# Altium integrated library Silicon Labs Energy Micro EFM32.IntLib: 240 symbols (part 1 of 34)
Pins are listed as number, name and electrical type; pins without a type are passive.

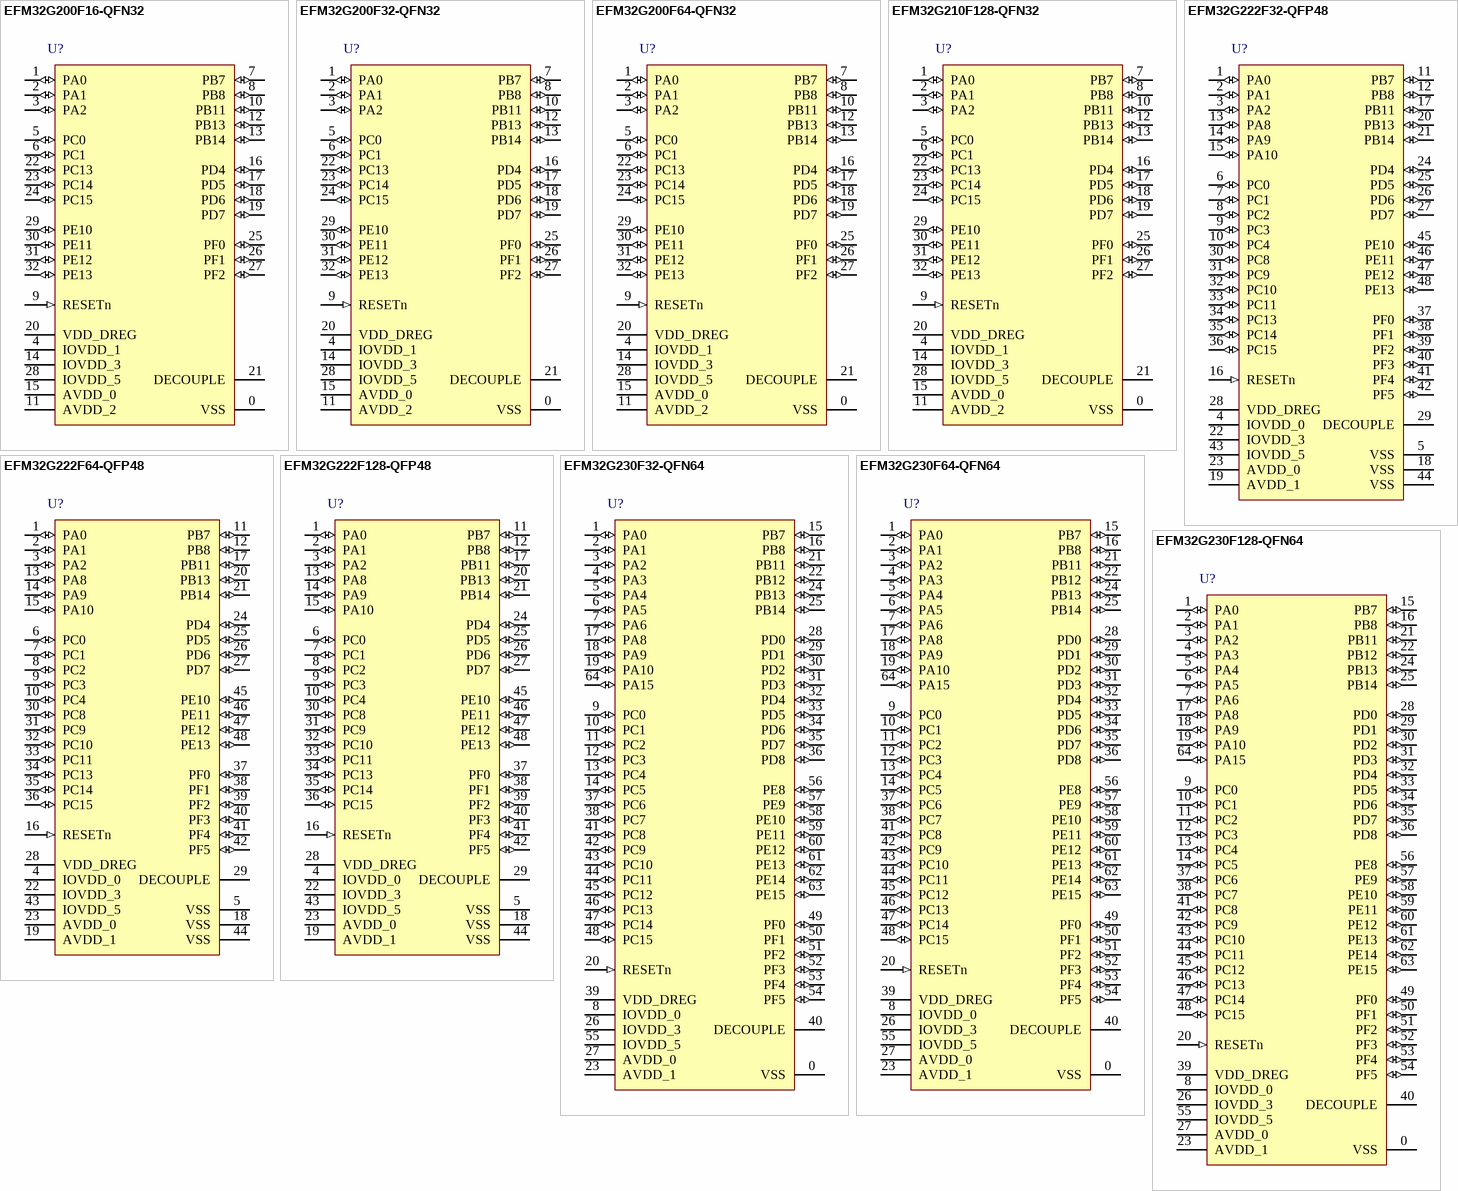
[diagram p0: symbols EFM32G200F16-QFN32 to EFM32G230F128-QFN64]

## EFM32G200F16-QFN32
designator U?
EFM32 Gecko, M3 ARM Cortex CPU, 16 KB Flash, 8 KB RAM, 1.85 - 3.8 V Supply, 32 MHz Max Speed, -40 to 85 degC, 32-Pin QFN, RoHS Compliant; Generic Part Number: EFM32G200; PartNumber: EFM32G200F16-QFN32; ADC: Y; Flash (KB): 16; GPIO: 24; Max Speed (MHz): 32; RAM (KB): 8; DatasheetVersion: Rev 1.50; PackageVersion: Rev. 98SPP32088A_XO1_10MAR2011; PackageReference: QFN32; PackageDescription: 32-Pin Quad Flat No Lead Package, Body 6 x 6 mm, Pitch 0.65 mm; Supplier 1: Digi-Key; Supplier Part Number 1: EFM32G200F16-ND; Supplier 2: Mouser; Supplier Part Number 2: 904-EFM32G200F16; ARM Cortex CPU: M3; Subcategory: EFM32 Gecko; Supply Voltage (V): 1.85 - 3.8; Mounting Technology: Surface Mount; ComponentLink1Description: Manufacturer URL; ComponentLink1URL: http://www.energymicro.com/; ComponentLink2Description: Datasheet; ComponentLink2URL: http://cdn.energymicro.com/dl/devices/pdf/d0003_efm32g200_datasheet.pdf; ComponentLink3Description: Package Specification; ComponentLink3URL: http://cdn.energymicro.com/dl/devices/pdf/d0004_efm32g210_datasheet.pdf
footprint ENMR-QFN32_N (QFN, 32-Leads, Body 6x6mm, Pitch 0.65mm, Thermal Pad 4.4x4.4mm, IPC Medium Density)
footprint ENMR-QFN32_L (QFN, 32-Leads, Body 6x6mm, Pitch 0.65mm, Thermal Pad 4.4x4.4mm, IPC High Density)
footprint ENMR-QFN32_M (QFN, 32-Leads, Body 6x6mm, Pitch 0.65mm, Thermal Pad 4.4x4.4mm, IPC Low Density)
pins: 0 VSS (power) "Ground", 1 PA0 (io) "TIM0_CC0#0/1, I2C0_SDA#0", 2 PA1 (io) "TIM0_CC1#0/1, I2C0_SCL#0, CMU_CLK1#0", 3 PA2 (io) "TIM0_CC2#0/1, CMU_CLK0#0", 4 IOVDD_1 (power) "Digital IO power supply 1.", 5 PC0 (io) "ACMP0_CH0, PCNT0_S0IN#2, US1_TX#0", 6 PC1 (io) "ACMP0_CH1, PCNT0_S1IN#2, US1_RX#0", 7 PB7 (io) "LFXTAL_P, US1_CLK#0", 8 PB8 (io) "LFXTAL_N, US1_CS#0", 9 RESETn (in) "Reset input. Active low, with internal pull-up.", 10 PB11 (io) "DAC0_OUT0, LETIM0_OUT0#1", 11 AVDD_2 (power) "Analog power supply 2 .", 12 PB13 (io) "HFXTAL_P, LEU0_TX#1", 13 PB14 (io) "HFXTAL_N, LEU0_RX#1", 14 IOVDD_3 (power) "Digital IO power supply 3.", 15 AVDD_0 (power) "Analog power supply 0.", 16 PD4 (io) "ADC0_CH4, LEU0_TX#0", 17 PD5 (io) "ADC0_CH5, LEU0_RX#0", 18 PD6 (io) "ADC0_CH6, LETIM0_OUT0#0, I2C0_SDA#1", 19 PD7 (io) "ADC0_CH7, LETIM0_OUT1#0, I2C0_SCL#1", 20 VDD_DREG (power) "Power supply for on-chip voltage regulator.", 21 DECOUPLE "Decouple output for on-chip voltage regulator. An external capacitance of size CDECOUPLE is required at this pin.", 22 PC13 (io) "ACMP1_CH5, TIM0_CDTI0#1/3, TIM1_CC0#0, PCNT0_S0IN#0", 23 PC14 (io) "ACMP1_CH6, TIM0_CDTI1#1/3, TIM1_CC1#0, PCNT0_S1IN#0", 24 PC15 (io) "ACMP1_CH7, TIM0_CDTI2#1/3, TIM1_CC2#0, DBG_SWO#1", 25 PF0 (io) "LETIM0_OUT0#2, DBG_SWCLK#0/1", 26 PF1 (io) "LETIM0_OUT1#2, DBG_SWDIO#0/1", 27 PF2 (io) "ACMP1_O#0, DBG_SWO#0", 28 IOVDD_5 (power) "Digital IO power supply 5.", 29 PE10 (io) "TIM1_CC0#1, US0_TX#0", 30 PE11 (io) "TIM1_CC1#1, US0_RX#0", 31 PE12 (io) "TIM1_CC2#1, US0_CLK#0", 32 PE13 (io) "US0_CS#0, ACMP0_O#0"

## EFM32G200F32-QFN32
designator U?
EFM32 Gecko, M3 ARM Cortex CPU, 32 KB Flash, 8 KB RAM, 1.85 - 3.8 V Supply, 32 MHz Max Speed, -40 to 85 degC, 32-Pin QFN, RoHS Compliant; Generic Part Number: EFM32G200; PartNumber: EFM32G200F32-QFN32; ADC: Y; Flash (KB): 32; GPIO: 24; RAM (KB): 8; DatasheetVersion: Rev 1.50; PackageVersion: Rev. 98SPP32088A_XO1_10MAR2011; PackageReference: QFN32; PackageDescription: 32-Pin Quad Flat No Lead Package, Body 6 x 6 mm, Pitch 0.65 mm; Supplier 1: Digi-Key; Supplier Part Number 1: EFM32G200F32-ND; Supplier 2: Mouser; Supplier Part Number 2: 904-EFM32G200F32; ARM Cortex CPU: M3; Max Speed (MHz): 32; Subcategory: EFM32 Gecko; Supply Voltage (V): 1.85 - 3.8; Mounting Technology: Surface Mount; ComponentLink1Description: Manufacturer URL; ComponentLink1URL: http://www.energymicro.com/; ComponentLink2Description: Datasheet; ComponentLink2URL: http://cdn.energymicro.com/dl/devices/pdf/d0003_efm32g200_datasheet.pdf; ComponentLink3Description: Package Specification; ComponentLink3URL: http://cdn.energymicro.com/dl/devices/pdf/d0004_efm32g210_datasheet.pdf
footprint ENMR-QFN32_N (QFN, 32-Leads, Body 6x6mm, Pitch 0.65mm, Thermal Pad 4.4x4.4mm, IPC Medium Density)
footprint ENMR-QFN32_L (QFN, 32-Leads, Body 6x6mm, Pitch 0.65mm, Thermal Pad 4.4x4.4mm, IPC High Density)
footprint ENMR-QFN32_M (QFN, 32-Leads, Body 6x6mm, Pitch 0.65mm, Thermal Pad 4.4x4.4mm, IPC Low Density)
pins: 0 VSS (power) "Ground", 1 PA0 (io) "TIM0_CC0#0/1, I2C0_SDA#0", 2 PA1 (io) "TIM0_CC1#0/1, I2C0_SCL#0, CMU_CLK1#0", 3 PA2 (io) "TIM0_CC2#0/1, CMU_CLK0#0", 4 IOVDD_1 (power) "Digital IO power supply 1.", 5 PC0 (io) "ACMP0_CH0, PCNT0_S0IN#2, US1_TX#0", 6 PC1 (io) "ACMP0_CH1, PCNT0_S1IN#2, US1_RX#0", 7 PB7 (io) "LFXTAL_P, US1_CLK#0", 8 PB8 (io) "LFXTAL_N, US1_CS#0", 9 RESETn (in) "Reset input. Active low, with internal pull-up.", 10 PB11 (io) "DAC0_OUT0, LETIM0_OUT0#1", 11 AVDD_2 (power) "Analog power supply 2 .", 12 PB13 (io) "HFXTAL_P, LEU0_TX#1", 13 PB14 (io) "HFXTAL_N, LEU0_RX#1", 14 IOVDD_3 (power) "Digital IO power supply 3.", 15 AVDD_0 (power) "Analog power supply 0.", 16 PD4 (io) "ADC0_CH4, LEU0_TX#0", 17 PD5 (io) "ADC0_CH5, LEU0_RX#0", 18 PD6 (io) "ADC0_CH6, LETIM0_OUT0#0, I2C0_SDA#1", 19 PD7 (io) "ADC0_CH7, LETIM0_OUT1#0, I2C0_SCL#1", 20 VDD_DREG (power) "Power supply for on-chip voltage regulator.", 21 DECOUPLE "Decouple output for on-chip voltage regulator. An external capacitance of size CDECOUPLE is required at this pin.", 22 PC13 (io) "ACMP1_CH5, TIM0_CDTI0#1/3, TIM1_CC0#0, PCNT0_S0IN#0", 23 PC14 (io) "ACMP1_CH6, TIM0_CDTI1#1/3, TIM1_CC1#0, PCNT0_S1IN#0", 24 PC15 (io) "ACMP1_CH7, TIM0_CDTI2#1/3, TIM1_CC2#0, DBG_SWO#1", 25 PF0 (io) "LETIM0_OUT0#2, DBG_SWCLK#0/1", 26 PF1 (io) "LETIM0_OUT1#2, DBG_SWDIO#0/1", 27 PF2 (io) "ACMP1_O#0, DBG_SWO#0", 28 IOVDD_5 (power) "Digital IO power supply 5.", 29 PE10 (io) "TIM1_CC0#1, US0_TX#0", 30 PE11 (io) "TIM1_CC1#1, US0_RX#0", 31 PE12 (io) "TIM1_CC2#1, US0_CLK#0", 32 PE13 (io) "US0_CS#0, ACMP0_O#0"

## EFM32G200F64-QFN32
designator U?
EFM32 Gecko, M3 ARM Cortex CPU, 64 KB Flash, 16 KB RAM, 1.85 - 3.8 V Supply, 32 MHz Max Speed, -40 to 85 degC, 32-Pin QFN, RoHS Compliant; Generic Part Number: EFM32G200; PartNumber: EFM32G200F64-QFN32; ADC: Y; Flash (KB): 64; GPIO: 24; Max Speed (MHz): 32; RAM (KB): 16; DatasheetVersion: Rev 1.50; PackageVersion: Rev. 98SPP32088A_XO1_10MAR2011; PackageReference: QFN32; PackageDescription: 32-Pin Quad Flat No Lead Package, Body 6 x 6 mm, Pitch 0.65 mm; Supplier 1: Digi-Key; Supplier Part Number 1: EFM32G200F64-ND; Supplier 2: Mouser; Supplier Part Number 2: 904-EFM32G200F64; ARM Cortex CPU: M3; Subcategory: EFM32 Gecko; Supply Voltage (V): 1.85 - 3.8; Mounting Technology: Surface Mount; ComponentLink1Description: Manufacturer URL; ComponentLink1URL: http://www.energymicro.com/; ComponentLink2Description: Datasheet; ComponentLink2URL: http://cdn.energymicro.com/dl/devices/pdf/d0003_efm32g200_datasheet.pdf; ComponentLink3Description: Package Specification; ComponentLink3URL: http://cdn.energymicro.com/dl/devices/pdf/d0004_efm32g210_datasheet.pdf
footprint ENMR-QFN32_N (QFN, 32-Leads, Body 6x6mm, Pitch 0.65mm, Thermal Pad 4.4x4.4mm, IPC Medium Density)
footprint ENMR-QFN32_L (QFN, 32-Leads, Body 6x6mm, Pitch 0.65mm, Thermal Pad 4.4x4.4mm, IPC High Density)
footprint ENMR-QFN32_M (QFN, 32-Leads, Body 6x6mm, Pitch 0.65mm, Thermal Pad 4.4x4.4mm, IPC Low Density)
pins: 0 VSS (power) "Ground", 1 PA0 (io) "TIM0_CC0#0/1, I2C0_SDA#0", 2 PA1 (io) "TIM0_CC1#0/1, I2C0_SCL#0, CMU_CLK1#0", 3 PA2 (io) "TIM0_CC2#0/1, CMU_CLK0#0", 4 IOVDD_1 (power) "Digital IO power supply 1.", 5 PC0 (io) "ACMP0_CH0, PCNT0_S0IN#2, US1_TX#0", 6 PC1 (io) "ACMP0_CH1, PCNT0_S1IN#2, US1_RX#0", 7 PB7 (io) "LFXTAL_P, US1_CLK#0", 8 PB8 (io) "LFXTAL_N, US1_CS#0", 9 RESETn (in) "Reset input. Active low, with internal pull-up.", 10 PB11 (io) "DAC0_OUT0, LETIM0_OUT0#1", 11 AVDD_2 (power) "Analog power supply 2 .", 12 PB13 (io) "HFXTAL_P, LEU0_TX#1", 13 PB14 (io) "HFXTAL_N, LEU0_RX#1", 14 IOVDD_3 (power) "Digital IO power supply 3.", 15 AVDD_0 (power) "Analog power supply 0.", 16 PD4 (io) "ADC0_CH4, LEU0_TX#0", 17 PD5 (io) "ADC0_CH5, LEU0_RX#0", 18 PD6 (io) "ADC0_CH6, LETIM0_OUT0#0, I2C0_SDA#1", 19 PD7 (io) "ADC0_CH7, LETIM0_OUT1#0, I2C0_SCL#1", 20 VDD_DREG (power) "Power supply for on-chip voltage regulator.", 21 DECOUPLE "Decouple output for on-chip voltage regulator. An external capacitance of size CDECOUPLE is required at this pin.", 22 PC13 (io) "ACMP1_CH5, TIM0_CDTI0#1/3, TIM1_CC0#0, PCNT0_S0IN#0", 23 PC14 (io) "ACMP1_CH6, TIM0_CDTI1#1/3, TIM1_CC1#0, PCNT0_S1IN#0", 24 PC15 (io) "ACMP1_CH7, TIM0_CDTI2#1/3, TIM1_CC2#0, DBG_SWO#1", 25 PF0 (io) "LETIM0_OUT0#2, DBG_SWCLK#0/1", 26 PF1 (io) "LETIM0_OUT1#2, DBG_SWDIO#0/1", 27 PF2 (io) "ACMP1_O#0, DBG_SWO#0", 28 IOVDD_5 (power) "Digital IO power supply 5.", 29 PE10 (io) "TIM1_CC0#1, US0_TX#0", 30 PE11 (io) "TIM1_CC1#1, US0_RX#0", 31 PE12 (io) "TIM1_CC2#1, US0_CLK#0", 32 PE13 (io) "US0_CS#0, ACMP0_O#0"

## EFM32G210F128-QFN32
designator U?
EFM32 Gecko, M3 ARM Cortex CPU, 128 KB Flash, 16 KB RAM, 1.85 - 3.8 V Supply, 32 MHz Max Speed, -40 to 85 degC, 32-Pin QFN, RoHS Compliant; Generic Part Number: EFM32G210; PartNumber: EFM32G210F128-QFN32; ADC: Y; Flash (KB): 128; GPIO: 24; Max Speed (MHz): 32; RAM (KB): 16; DatasheetVersion: Rev 1.50; PackageVersion: Rev. 98SPP32088A_XO1_10MAR2011; PackageReference: QFN32; PackageDescription: 32-Pin Quad Flat No Lead Package, Body 6 x 6 mm, Pitch 0.65 mm; Supplier 1: Digi-Key; Supplier Part Number 1: 914-1011-2-ND; Supplier 2: Digi-Key; Supplier Part Number 2: 914-1011-1-ND; Supplier 3: Digi-Key; Supplier Part Number 3: 914-1011-6-ND; Supplier 4: Mouser; Supplier Part Number 4: 904-EFM32G210F128; AES: Y; ARM Cortex CPU: M3; Subcategory: EFM32 Gecko; Supply Voltage (V): 1.85 - 3.8; Mounting Technology: Surface Mount; ComponentLink1Description: Manufacturer URL; ComponentLink1URL: http://www.energymicro.com/; ComponentLink2Description: Datasheet; ComponentLink2URL: http://cdn.energymicro.com/dl/devices/pdf/d0004_efm32g210_datasheet.pdf; ComponentLink3Description: Package Specification; ComponentLink3URL: http://cdn.energymicro.com/dl/devices/pdf/d0004_efm32g210_datasheet.pdf
footprint ENMR-QFN32_N (QFN, 32-Leads, Body 6x6mm, Pitch 0.65mm, Thermal Pad 4.4x4.4mm, IPC Medium Density)
footprint ENMR-QFN32_L (QFN, 32-Leads, Body 6x6mm, Pitch 0.65mm, Thermal Pad 4.4x4.4mm, IPC High Density)
footprint ENMR-QFN32_M (QFN, 32-Leads, Body 6x6mm, Pitch 0.65mm, Thermal Pad 4.4x4.4mm, IPC Low Density)
pins: 0 VSS (power) "Ground", 1 PA0 (io) "TIM0_CC0#0/1, I2C0_SDA#0", 2 PA1 (io) "TIM0_CC1#0/1, I2C0_SCL#0, CMU_CLK1#0", 3 PA2 (io) "TIM0_CC2#0/1, CMU_CLK0#0", 4 IOVDD_1 (power) "Digital IO power supply 1.", 5 PC0 (io) "ACMP0_CH0, PCNT0_S0IN#2, US1_TX#0", 6 PC1 (io) "ACMP0_CH1, PCNT0_S1IN#2, US1_RX#0", 7 PB7 (io) "LFXTAL_P, US1_CLK#0", 8 PB8 (io) "LFXTAL_N, US1_CS#0", 9 RESETn (in) "Reset input. Active low, with internal pull-up.", 10 PB11 (io) "DAC0_OUT0, LETIM0_OUT0#1", 11 AVDD_2 (power) "Analog power supply 2 .", 12 PB13 (io) "HFXTAL_P, LEU0_TX#1", 13 PB14 (io) "HFXTAL_N, LEU0_RX#1", 14 IOVDD_3 (power) "Digital IO power supply 3.", 15 AVDD_0 (power) "Analog power supply 0.", 16 PD4 (io) "ADC0_CH4, LEU0_TX#0", 17 PD5 (io) "ADC0_CH5, LEU0_RX#0", 18 PD6 (io) "ADC0_CH6, LETIM0_OUT0#0, I2C0_SDA#1", 19 PD7 (io) "ADC0_CH7, LETIM0_OUT1#0, I2C0_SCL#1", 20 VDD_DREG (power) "Power supply for on-chip voltage regulator.", 21 DECOUPLE "Decouple output for on-chip voltage regulator. An external capacitance of size CDECOUPLE is required at this pin.", 22 PC13 (io) "ACMP1_CH5, TIM0_CDTI0#1/3, TIM1_CC0#0, PCNT0_S0IN#0", 23 PC14 (io) "ACMP1_CH6, TIM0_CDTI1#1/3, TIM1_CC1#0, PCNT0_S1IN#0", 24 PC15 (io) "ACMP1_CH7, TIM0_CDTI2#1/3, TIM1_CC2#0, DBG_SWO#1", 25 PF0 (io) "LETIM0_OUT0#2, DBG_SWCLK#0/1", 26 PF1 (io) "LETIM0_OUT1#2, DBG_SWDIO#0/1", 27 PF2 (io) "ACMP1_O#0, DBG_SWO#0", 28 IOVDD_5 (power) "Digital IO power supply 5.", 29 PE10 (io) "TIM1_CC0#1, US0_TX#0", 30 PE11 (io) "TIM1_CC1#1, US0_RX#0", 31 PE12 (io) "TIM1_CC2#1, US0_CLK#0", 32 PE13 (io) "US0_CS#0, ACMP0_O#0"

## EFM32G222F32-QFP48
designator U?
EFM32 Gecko, M3 ARM Cortex CPU, 32 KB Flash, 8 KB RAM, 1.85 - 3.8 V Supply, 32 MHz Max Speed, -40 to 85 degC, 48-Pin TQFP, RoHS Compliant; Generic Part Number: EFM32G222; PartNumber: EFM32G222F32-QFP48; ADC: Y; Flash (KB): 32; GPIO: 37; RAM (KB): 8; DatasheetVersion: Rev 1.50; PackageVersion: Rev. 98SPP48097A_XO_30Mar11; PackageReference: TQFP48; PackageDescription: 48-Pin Quad Flat Package, Body 7 x 7 mm, Pitch 0.5 mm; Supplier 1: Digi-Key; Supplier Part Number 1: EFM32G222F32-ND; Supplier 2: Mouser; Supplier Part Number 2: 904-EFM32G222F32; AES: Y; ARM Cortex CPU: M3; Max Speed (MHz): 32; Subcategory: EFM32 Gecko; Supply Voltage (V): 1.85 - 3.8; Mounting Technology: Surface Mount; ComponentLink1Description: Manufacturer URL; ComponentLink1URL: http://www.energymicro.com/; ComponentLink2Description: Datasheet; ComponentLink2URL: http://cdn.energymicro.com/dl/devices/pdf/d0033_efm32g222_datasheet.pdf; ComponentLink3Description: Package Specification; ComponentLink3URL: http://cdn.energymicro.com/dl/devices/pdf/d0033_efm32g222_datasheet.pdf
footprint ENMR-TQFP48_N (QFP, 48-Leads, Body 7x7mm, Pitch 0.5mm, IPC Medium Density)
footprint ENMR-TQFP48_L (QFP, 48-Leads, Body 7x7mm, Pitch 0.5mm, IPC High Density)
footprint ENMR-TQFP48_M (QFP, 48-Leads, Body 7x7mm, Pitch 0.5mm, IPC Low Density)
pins: 1 PA0 (io) "TIM0_CC0#0/1, I2C0_SDA#0", 2 PA1 (io) "TIM0_CC1#0/1, I2C0_SCL#0, CMU_CLK1#0", 3 PA2 (io) "TIM0_CC2#0/1, CMU_CLK0#0", 4 IOVDD_0 (power) "Digital IO power supply 0.", 5 VSS (power) "Ground", 6 PC0 (io) "ACMP0_CH0, PCNT0_S0IN#2, US1_TX#0", 7 PC1 (io) "ACMP0_CH1, PCNT0_S1IN#2, US1_RX#0", 8 PC2 (io) "ACMP0_CH2", 9 PC3 (io) "ACMP0_CH3", 10 PC4 (io) "ACMP0_CH4, LETIM0_OUT0#3, PCNT1_S0IN#0", 11 PB7 (io) "LFXTAL_P, US1_CLK#0", 12 PB8 (io) "LFXTAL_N, US1_CS#0", 13 PA8 (io) "TIM2_CC0#0", 14 PA9 (io) "TIM2_CC1#0", 15 PA10 (io) "TIM2_CC2#0", 16 RESETn (in) "Reset input.Active low, with internal pull-up.", 17 PB11 (io) "DAC0_OUT0, LETIM0_OUT0#1", 18 VSS (power) "Ground", 19 AVDD_1 (power) "Analog power supply 1 .", 20 PB13 (io) "HFXTAL_P, LEU0_TX#1", 21 PB14 (io) "HFXTAL_N, LEU0_RX#1", 22 IOVDD_3 (power) "Digital IO power supply 3.", 23 AVDD_0 (power) "Analog power supply 0.", 24 PD4 (io) "ADC0_CH4, LEU0_TX#0", 25 PD5 (io) "ADC0_CH5, LEU0_RX#0", 26 PD6 (io) "ADC0_CH6, LETIM0_OUT0#0, I2C0_SDA#1", 27 PD7 (io) "ADC0_CH7, LETIM0_OUT1#0, I2C0_SCL#1", 28 VDD_DREG (power) "Power supply for on-chip voltage regulator.", 29 DECOUPLE "Decouple output for on-chip voltage regulator. An external capacitance of size CDECOUPLE is required at this pin.", 30 PC8 (io) "ACMP1_CH0, TIM2_CC0#2, US0_CS#2", 31 PC9 (io) "ACMP1_CH1, TIM2_CC1#2, US0_CLK#2", 32 PC10 (io) "ACMP1_CH2, TIM2_CC2#2, US0_RX#2", 33 PC11 (io) "ACMP1_CH3, US0_TX#2", 34 PC13 (io) "ACMP1_CH5, TIM0_CDTI0#1/3, TIM1_CC0#0, PCNT0_S0IN#0", 35 PC14 (io) "ACMP1_CH6, TIM0_CDTI1#1/3, TIM1_CC1#0, PCNT0_S1IN#0", 36 PC15 (io) "ACMP1_CH7, TIM0_CDTI2#1/3, TIM1_CC2#0, DBG_SWO#1", 37 PF0 (io) "LETIM0_OUT0#2, DBG_SWCLK#0/1", 38 PF1 (io) "LETIM0_OUT1#2, DBG_SWDIO#0/1", 39 PF2 (io) "ACMP1_O#0, DBG_SWO#0", 40 PF3 (io) "TIM0_CDTI0#2", 41 PF4 (io) "TIM0_CDTI1#2", 42 PF5 (io) "TIM0_CDTI2#2", 43 IOVDD_5 (power) "Digital IO power supply 5.", 44 VSS (power) "Ground", 45 PE10 (io) "TIM1_CC0#1, US0_TX#0", 46 PE11 (io) "TIM1_CC1#1, US0_RX#0", 47 PE12 (io) "TIM1_CC2#1, US0_CLK#0", 48 PE13 (io) "US0_CS#0, ACMP0_O#0"

## EFM32G222F64-QFP48
designator U?
EFM32 Gecko, M3 ARM Cortex CPU, 64 KB Flash, 16 KB RAM, 1.85 - 3.8 V Supply, 32 MHz Max Speed, -40 to 85 degC, 48-Pin TQFP, RoHS Compliant; Generic Part Number: EFM32G222; PartNumber: EFM32G222F64-QFP48; ADC: Y; Flash (KB): 64; GPIO: 37; Max Speed (MHz): 32; RAM (KB): 16; DatasheetVersion: Rev 1.50; PackageVersion: Rev. 98SPP48097A_XO_30Mar11; PackageReference: TQFP48; PackageDescription: 48-Pin Quad Flat Package, Body 7 x 7 mm, Pitch 0.5 mm; Supplier 1: Digi-Key; Supplier Part Number 1: EFM32G222F64-ND; Supplier 2: Mouser; Supplier Part Number 2: 904-EFM32G222F64; AES: Y; ARM Cortex CPU: M3; Subcategory: EFM32 Gecko; Supply Voltage (V): 1.85 - 3.8; Mounting Technology: Surface Mount; ComponentLink1Description: Manufacturer URL; ComponentLink1URL: http://www.energymicro.com/; ComponentLink2Description: Datasheet; ComponentLink2URL: http://cdn.energymicro.com/dl/devices/pdf/d0033_efm32g222_datasheet.pdf; ComponentLink3Description: Package Specification; ComponentLink3URL: http://cdn.energymicro.com/dl/devices/pdf/d0033_efm32g222_datasheet.pdf
footprint ENMR-TQFP48_N (QFP, 48-Leads, Body 7x7mm, Pitch 0.5mm, IPC Medium Density)
footprint ENMR-TQFP48_L (QFP, 48-Leads, Body 7x7mm, Pitch 0.5mm, IPC High Density)
footprint ENMR-TQFP48_M (QFP, 48-Leads, Body 7x7mm, Pitch 0.5mm, IPC Low Density)
pins: 1 PA0 (io) "TIM0_CC0#0/1, I2C0_SDA#0", 2 PA1 (io) "TIM0_CC1#0/1, I2C0_SCL#0, CMU_CLK1#0", 3 PA2 (io) "TIM0_CC2#0/1, CMU_CLK0#0", 4 IOVDD_0 (power) "Digital IO power supply 0.", 5 VSS (power) "Ground", 6 PC0 (io) "ACMP0_CH0, PCNT0_S0IN#2, US1_TX#0", 7 PC1 (io) "ACMP0_CH1, PCNT0_S1IN#2, US1_RX#0", 8 PC2 (io) "ACMP0_CH2", 9 PC3 (io) "ACMP0_CH3", 10 PC4 (io) "ACMP0_CH4, LETIM0_OUT0#3, PCNT1_S0IN#0", 11 PB7 (io) "LFXTAL_P, US1_CLK#0", 12 PB8 (io) "LFXTAL_N, US1_CS#0", 13 PA8 (io) "TIM2_CC0#0", 14 PA9 (io) "TIM2_CC1#0", 15 PA10 (io) "TIM2_CC2#0", 16 RESETn (in) "Reset input.Active low, with internal pull-up.", 17 PB11 (io) "DAC0_OUT0, LETIM0_OUT0#1", 18 VSS (power) "Ground", 19 AVDD_1 (power) "Analog power supply 1 .", 20 PB13 (io) "HFXTAL_P, LEU0_TX#1", 21 PB14 (io) "HFXTAL_N, LEU0_RX#1", 22 IOVDD_3 (power) "Digital IO power supply 3.", 23 AVDD_0 (power) "Analog power supply 0.", 24 PD4 (io) "ADC0_CH4, LEU0_TX#0", 25 PD5 (io) "ADC0_CH5, LEU0_RX#0", 26 PD6 (io) "ADC0_CH6, LETIM0_OUT0#0, I2C0_SDA#1", 27 PD7 (io) "ADC0_CH7, LETIM0_OUT1#0, I2C0_SCL#1", 28 VDD_DREG (power) "Power supply for on-chip voltage regulator.", 29 DECOUPLE "Decouple output for on-chip voltage regulator. An external capacitance of size CDECOUPLE is required at this pin.", 30 PC8 (io) "ACMP1_CH0, TIM2_CC0#2, US0_CS#2", 31 PC9 (io) "ACMP1_CH1, TIM2_CC1#2, US0_CLK#2", 32 PC10 (io) "ACMP1_CH2, TIM2_CC2#2, US0_RX#2", 33 PC11 (io) "ACMP1_CH3, US0_TX#2", 34 PC13 (io) "ACMP1_CH5, TIM0_CDTI0#1/3, TIM1_CC0#0, PCNT0_S0IN#0", 35 PC14 (io) "ACMP1_CH6, TIM0_CDTI1#1/3, TIM1_CC1#0, PCNT0_S1IN#0", 36 PC15 (io) "ACMP1_CH7, TIM0_CDTI2#1/3, TIM1_CC2#0, DBG_SWO#1", 37 PF0 (io) "LETIM0_OUT0#2, DBG_SWCLK#0/1", 38 PF1 (io) "LETIM0_OUT1#2, DBG_SWDIO#0/1", 39 PF2 (io) "ACMP1_O#0, DBG_SWO#0", 40 PF3 (io) "TIM0_CDTI0#2", 41 PF4 (io) "TIM0_CDTI1#2", 42 PF5 (io) "TIM0_CDTI2#2", 43 IOVDD_5 (power) "Digital IO power supply 5.", 44 VSS (power) "Ground", 45 PE10 (io) "TIM1_CC0#1, US0_TX#0", 46 PE11 (io) "TIM1_CC1#1, US0_RX#0", 47 PE12 (io) "TIM1_CC2#1, US0_CLK#0", 48 PE13 (io) "US0_CS#0, ACMP0_O#0"

## EFM32G222F128-QFP48
designator U?
EFM32 Gecko, M3 ARM Cortex CPU, 128 KB Flash, 16 KB RAM, 1.85 - 3.8 V Supply, 32 MHz Max Speed, -40 to 85 degC, 48-Pin TQFP, RoHS Compliant; Generic Part Number: EFM32G222; PartNumber: EFM32G222F128-QFP48; ADC: Y; Flash (KB): 128; GPIO: 37; Max Speed (MHz): 32; RAM (KB): 16; DatasheetVersion: Rev 1.50; PackageVersion: Rev. 98SPP48097A_XO_30Mar11; PackageReference: TQFP48; PackageDescription: 48-Pin Quad Flat Package, Body 7 x 7 mm, Pitch 0.5 mm; Supplier 1: Digi-Key; Supplier Part Number 1: 914-1027-2-ND; Supplier 2: Digi-Key; Supplier Part Number 2: 914-1027-1-ND; Supplier 3: Digi-Key; Supplier Part Number 3: 914-1027-6-ND; Supplier 4: Mouser; Supplier Part Number 4: 904-EFM32G222F128; AES: Y; ARM Cortex CPU: M3; Subcategory: EFM32 Gecko; Supply Voltage (V): 1.85 - 3.8; Mounting Technology: Surface Mount; ComponentLink1Description: Manufacturer URL; ComponentLink1URL: http://www.energymicro.com/; ComponentLink2Description: Datasheet; ComponentLink2URL: http://cdn.energymicro.com/dl/devices/pdf/d0033_efm32g222_datasheet.pdf; ComponentLink3Description: Package Specification; ComponentLink3URL: http://cdn.energymicro.com/dl/devices/pdf/d0033_efm32g222_datasheet.pdf
footprint ENMR-TQFP48_N (QFP, 48-Leads, Body 7x7mm, Pitch 0.5mm, IPC Medium Density)
footprint ENMR-TQFP48_L (QFP, 48-Leads, Body 7x7mm, Pitch 0.5mm, IPC High Density)
footprint ENMR-TQFP48_M (QFP, 48-Leads, Body 7x7mm, Pitch 0.5mm, IPC Low Density)
pins: 1 PA0 (io) "TIM0_CC0#0/1, I2C0_SDA#0", 2 PA1 (io) "TIM0_CC1#0/1, I2C0_SCL#0, CMU_CLK1#0", 3 PA2 (io) "TIM0_CC2#0/1, CMU_CLK0#0", 4 IOVDD_0 (power) "Digital IO power supply 0.", 5 VSS (power) "Ground", 6 PC0 (io) "ACMP0_CH0, PCNT0_S0IN#2, US1_TX#0", 7 PC1 (io) "ACMP0_CH1, PCNT0_S1IN#2, US1_RX#0", 8 PC2 (io) "ACMP0_CH2", 9 PC3 (io) "ACMP0_CH3", 10 PC4 (io) "ACMP0_CH4, LETIM0_OUT0#3, PCNT1_S0IN#0", 11 PB7 (io) "LFXTAL_P, US1_CLK#0", 12 PB8 (io) "LFXTAL_N, US1_CS#0", 13 PA8 (io) "TIM2_CC0#0", 14 PA9 (io) "TIM2_CC1#0", 15 PA10 (io) "TIM2_CC2#0", 16 RESETn (in) "Reset input.Active low, with internal pull-up.", 17 PB11 (io) "DAC0_OUT0, LETIM0_OUT0#1", 18 VSS (power) "Ground", 19 AVDD_1 (power) "Analog power supply 1 .", 20 PB13 (io) "HFXTAL_P, LEU0_TX#1", 21 PB14 (io) "HFXTAL_N, LEU0_RX#1", 22 IOVDD_3 (power) "Digital IO power supply 3.", 23 AVDD_0 (power) "Analog power supply 0.", 24 PD4 (io) "ADC0_CH4, LEU0_TX#0", 25 PD5 (io) "ADC0_CH5, LEU0_RX#0", 26 PD6 (io) "ADC0_CH6, LETIM0_OUT0#0, I2C0_SDA#1", 27 PD7 (io) "ADC0_CH7, LETIM0_OUT1#0, I2C0_SCL#1", 28 VDD_DREG (power) "Power supply for on-chip voltage regulator.", 29 DECOUPLE "Decouple output for on-chip voltage regulator. An external capacitance of size CDECOUPLE is required at this pin.", 30 PC8 (io) "ACMP1_CH0, TIM2_CC0#2, US0_CS#2", 31 PC9 (io) "ACMP1_CH1, TIM2_CC1#2, US0_CLK#2", 32 PC10 (io) "ACMP1_CH2, TIM2_CC2#2, US0_RX#2", 33 PC11 (io) "ACMP1_CH3, US0_TX#2", 34 PC13 (io) "ACMP1_CH5, TIM0_CDTI0#1/3, TIM1_CC0#0, PCNT0_S0IN#0", 35 PC14 (io) "ACMP1_CH6, TIM0_CDTI1#1/3, TIM1_CC1#0, PCNT0_S1IN#0", 36 PC15 (io) "ACMP1_CH7, TIM0_CDTI2#1/3, TIM1_CC2#0, DBG_SWO#1", 37 PF0 (io) "LETIM0_OUT0#2, DBG_SWCLK#0/1", 38 PF1 (io) "LETIM0_OUT1#2, DBG_SWDIO#0/1", 39 PF2 (io) "ACMP1_O#0, DBG_SWO#0", 40 PF3 (io) "TIM0_CDTI0#2", 41 PF4 (io) "TIM0_CDTI1#2", 42 PF5 (io) "TIM0_CDTI2#2", 43 IOVDD_5 (power) "Digital IO power supply 5.", 44 VSS (power) "Ground", 45 PE10 (io) "TIM1_CC0#1, US0_TX#0", 46 PE11 (io) "TIM1_CC1#1, US0_RX#0", 47 PE12 (io) "TIM1_CC2#1, US0_CLK#0", 48 PE13 (io) "US0_CS#0, ACMP0_O#0"

## EFM32G230F32-QFN64
designator U?
EFM32 Gecko, M3 ARM Cortex CPU, 32 KB Flash, 8 KB RAM, 1.85 - 3.8 V Supply, 32 MHz Max Speed, -40 to 85 degC, 64-Pin QFN, RoHS Compliant; Generic Part Number: EFM32G230; PartNumber: EFM32G230F32-QFN64; ADC: Y; Flash (KB): 32; GPIO: 56; I2C: 1; RAM (KB): 8; DatasheetVersion: Rev. 98SPP64048A_XO1_08MAR2011; PackageVersion: Rev. 98SPP64048A_XO1_08MAR2011; PackageReference: QFN64; PackageDescription: 64-Pin Quad Flat No-Lead, Body 9 x 9 mm, Pitch 0.5 mm; Supplier 1: Digi-Key; Supplier Part Number 1: EFM32G230F32-ND; Supplier 2: Mouser; Supplier Part Number 2: 904-EFM32G230F32; AES: Y; ARM Cortex CPU: M3; Max Speed (MHz): 32; Subcategory: EFM32 Gecko; Supply Voltage (V): 1.85 - 3.8; Mounting Technology: Surface Mount; ComponentLink1Description: Manufacturer URL; ComponentLink1URL: http://www.energymicro.com/; ComponentLink2Description: Datasheet; ComponentLink2URL: http://cdn.energymicro.com/dl/devices/pdf/d0005_efm32g230_datasheet.pdf; ComponentLink3Description: Package Specification; ComponentLink3URL: http://cdn.energymicro.com/dl/devices/pdf/d0005_efm32g230_datasheet.pdf
footprint ENMR-QFN64_N (QFN, 64-Leads, Body 9x9mm, Pitch 0.5mm, IPC Medium Density)
footprint ENMR-QFN64_L (QFN, 64-Leads, Body 9x9mm, Pitch 0.5mm, IPC High Density)
footprint ENMR-QFN64_M (QFN, 64-Leads, Body 9x9mm, Pitch 0.5mm, IPC Low Density)
pins: 0 VSS (power) "Ground", 1 PA0 (io) "TIM0_CC0#0/1, I2C0_SDA#0", 2 PA1 (io) "TIM0_CC1#0/1, I2C0_SCL#0, CMU_CLK1#0", 3 PA2 (io) "TIM0_CC2#0/1, CMU_CLK0#0", 4 PA3 (io) "TIM0_CDTI0#0", 5 PA4 (io) "TIM0_CDTI1#0", 6 PA5 (io) "TIM0_CDTI2#0, LEU1_TX#1", 7 PA6 (io) "LEU1_RX#1", 8 IOVDD_0 (power) "Digital IO power supply 0.", 9 PC0 (io) "ACMP0_CH0, PCNT0_S0IN#2, US1_TX#0", 10 PC1 (io) "ACMP0_CH1, PCNT0_S1IN#2, US1_RX#0", 11 PC2 (io) "ACMP0_CH2, US2_TX#0", 12 PC3 (io) "ACMP0_CH3, US2_RX#0", 13 PC4 (io) "ACMP0_CH4, LETIM0_OUT0#3, PCNT1_S0IN#0, US2_CLK#0", 14 PC5 (io) "ACMP0_CH5, LETIM0_OUT1#3, PCNT1_S1IN#0, US2_CS#0", 15 PB7 (io) "LFXTAL_P, US1_CLK#0", 16 PB8 (io) "LFXTAL_N, US1_CS#0", 17 PA8 (io) "TIM2_CC0#0", 18 PA9 (io) "TIM2_CC1#0", 19 PA10 (io) "TIM2_CC2#0", 20 RESETn (in) "Reset input. Active low, with internal pull-up.", 21 PB11 (io) "DAC0_OUT0, LETIM0_OUT0#1", 22 PB12 (io) "DAC0_OUT1, LETIM0_OUT1#1", 23 AVDD_1 (power) "Analog power supply 1 .", 24 PB13 (io) "HFXTAL_P, LEU0_TX#1", 25 PB14 (io) "HFXTAL_N, LEU0_RX#1", 26 IOVDD_3 (power) "Digital IO power supply 3.", 27 AVDD_0 (power) "Analog power supply 0.", 28 PD0 (io) "ADC0_CH0, PCNT2_S0IN#0, US1_TX#1", 29 PD1 (io) "ADC0_CH1, TIM0_CC0#3, PCNT2_S1IN#0, US1_RX#1", 30 PD2 (io) "ADC0_CH2, TIM0_CC1#3, US1_CLK#1", 31 PD3 (io) "ADC0_CH3, TIM0_CC2#3, US1_CS#1", 32 PD4 (io) "ADC0_CH4, LEU0_TX#0", 33 PD5 (io) "ADC0_CH5, LEU0_RX#0", 34 PD6 (io) "ADC0_CH6, LETIM0_OUT0#0, I2C0_SDA#1", 35 PD7 (io) "ADC0_CH7, LETIM0_OUT1#0, I2C0_SCL#1", 36 PD8 (io) "CMU_CLK1#1", 37 PC6 (io) "ACMP0_CH6, LEU1_TX#0, I2C0_SDA#2", 38 PC7 (io) "ACMP0_CH7, LEU1_RX#0, I2C0_SCL#2", 39 VDD_DREG (power) "Power supply for on-chip voltage regulator.", 40 DECOUPLE "Decouple output for on-chip voltage regulator. An external capacitance of size CDECOUPLE is required at this pin.", 41 PC8 (io) "ACMP1_CH0, TIM2_CC0#2, US0_CS#2", 42 PC9 (io) "ACMP1_CH1, TIM2_CC1#2, US0_CLK#2", 43 PC10 (io) "ACMP1_CH2, TIM2_CC2#2, US0_RX#2", 44 PC11 (io) "ACMP1_CH3, US0_TX#2", 45 PC12 (io) "ACMP1_CH4, CMU_CLK0#1", 46 PC13 (io) "ACMP1_CH5, TIM0_CDTI0#1/3, TIM1_CC0#0, PCNT0_S0IN#0", 47 PC14 (io) "ACMP1_CH6, TIM0_CDTI1#1/3, TIM1_CC1#0, PCNT0_S1IN#0", 48 PC15 (io) "ACMP1_CH7, TIM0_CDTI2#1/3, TIM1_CC2#0, DBG_SWO#1", 49 PF0 (io) "LETIM0_OUT0#2, DBG_SWCLK#0/1", 50 PF1 (io) "LETIM0_OUT1#2, DBG_SWDIO#0/1", 51 PF2 (io) "ACMP1_O#0, DBG_SWO#0", 52 PF3 (io) "TIM0_CDTI0#2", 53 PF4 (io) "TIM0_CDTI1#2", 54 PF5 (io) "TIM0_CDTI2#2", 55 IOVDD_5 (power) "Digital IO power supply 5.", 56 PE8 (io) "PCNT2_S0IN#1", 57 PE9 (io) "PCNT2_S1IN#1", 58 PE10 (io) "TIM1_CC0#1, US0_TX#0", 59 PE11 (io) "TIM1_CC1#1, US0_RX#0", 60 PE12 (io) "TIM1_CC2#1, US0_CLK#0", 61 PE13 (io) "US0_CS#0, ACMP0_O#0", 62 PE14 (io) "LEU0_TX#2", 63 PE15 (io) "LEU0_RX#2", 64 PA15 (io)

## EFM32G230F64-QFN64
designator U?
EFM32 Gecko, M3 ARM Cortex CPU, 64 KB Flash, 16 KB RAM, 1.85 - 3.8 V Supply, 32 MHz Max Speed, -40 to 85 degC, 64-Pin QFN, RoHS Compliant; Generic Part Number: EFM32G230; PartNumber: EFM32G230F64-QFN64; ADC: Y; Flash (KB): 64; GPIO: 56; I2C: 1; Max Speed (MHz): 32; RAM (KB): 16; DatasheetVersion: Rev. 98SPP64048A_XO1_08MAR2011; PackageVersion: Rev. 98SPP64048A_XO1_08MAR2011; PackageReference: QFN64; PackageDescription: 64-Pin Quad Flat No-Lead, Body 9 x 9 mm, Pitch 0.5 mm; Supplier 1: Digi-Key; Supplier Part Number 1: EFM32G230F64-ND; Supplier 2: Mouser; Supplier Part Number 2: 904-EFM32G230F64; AES: Y; ARM Cortex CPU: M3; Subcategory: EFM32 Gecko; Supply Voltage (V): 1.85 - 3.8; Mounting Technology: Surface Mount; ComponentLink1Description: Manufacturer URL; ComponentLink1URL: http://www.energymicro.com/; ComponentLink2Description: Datasheet; ComponentLink2URL: http://cdn.energymicro.com/dl/devices/pdf/d0005_efm32g230_datasheet.pdf; ComponentLink3Description: Package Specification; ComponentLink3URL: http://cdn.energymicro.com/dl/devices/pdf/d0005_efm32g230_datasheet.pdf
footprint ENMR-QFN64_N (QFN, 64-Leads, Body 9x9mm, Pitch 0.5mm, IPC Medium Density)
footprint ENMR-QFN64_L (QFN, 64-Leads, Body 9x9mm, Pitch 0.5mm, IPC High Density)
footprint ENMR-QFN64_M (QFN, 64-Leads, Body 9x9mm, Pitch 0.5mm, IPC Low Density)
pins: 0 VSS (power) "Ground", 1 PA0 (io) "TIM0_CC0#0/1, I2C0_SDA#0", 2 PA1 (io) "TIM0_CC1#0/1, I2C0_SCL#0, CMU_CLK1#0", 3 PA2 (io) "TIM0_CC2#0/1, CMU_CLK0#0", 4 PA3 (io) "TIM0_CDTI0#0", 5 PA4 (io) "TIM0_CDTI1#0", 6 PA5 (io) "TIM0_CDTI2#0, LEU1_TX#1", 7 PA6 (io) "LEU1_RX#1", 8 IOVDD_0 (power) "Digital IO power supply 0.", 9 PC0 (io) "ACMP0_CH0, PCNT0_S0IN#2, US1_TX#0", 10 PC1 (io) "ACMP0_CH1, PCNT0_S1IN#2, US1_RX#0", 11 PC2 (io) "ACMP0_CH2, US2_TX#0", 12 PC3 (io) "ACMP0_CH3, US2_RX#0", 13 PC4 (io) "ACMP0_CH4, LETIM0_OUT0#3, PCNT1_S0IN#0, US2_CLK#0", 14 PC5 (io) "ACMP0_CH5, LETIM0_OUT1#3, PCNT1_S1IN#0, US2_CS#0", 15 PB7 (io) "LFXTAL_P, US1_CLK#0", 16 PB8 (io) "LFXTAL_N, US1_CS#0", 17 PA8 (io) "TIM2_CC0#0", 18 PA9 (io) "TIM2_CC1#0", 19 PA10 (io) "TIM2_CC2#0", 20 RESETn (in) "Reset input. Active low, with internal pull-up.", 21 PB11 (io) "DAC0_OUT0, LETIM0_OUT0#1", 22 PB12 (io) "DAC0_OUT1, LETIM0_OUT1#1", 23 AVDD_1 (power) "Analog power supply 1 .", 24 PB13 (io) "HFXTAL_P, LEU0_TX#1", 25 PB14 (io) "HFXTAL_N, LEU0_RX#1", 26 IOVDD_3 (power) "Digital IO power supply 3.", 27 AVDD_0 (power) "Analog power supply 0.", 28 PD0 (io) "ADC0_CH0, PCNT2_S0IN#0, US1_TX#1", 29 PD1 (io) "ADC0_CH1, TIM0_CC0#3, PCNT2_S1IN#0, US1_RX#1", 30 PD2 (io) "ADC0_CH2, TIM0_CC1#3, US1_CLK#1", 31 PD3 (io) "ADC0_CH3, TIM0_CC2#3, US1_CS#1", 32 PD4 (io) "ADC0_CH4, LEU0_TX#0", 33 PD5 (io) "ADC0_CH5, LEU0_RX#0", 34 PD6 (io) "ADC0_CH6, LETIM0_OUT0#0, I2C0_SDA#1", 35 PD7 (io) "ADC0_CH7, LETIM0_OUT1#0, I2C0_SCL#1", 36 PD8 (io) "CMU_CLK1#1", 37 PC6 (io) "ACMP0_CH6, LEU1_TX#0, I2C0_SDA#2", 38 PC7 (io) "ACMP0_CH7, LEU1_RX#0, I2C0_SCL#2", 39 VDD_DREG (power) "Power supply for on-chip voltage regulator.", 40 DECOUPLE "Decouple output for on-chip voltage regulator. An external capacitance of size CDECOUPLE is required at this pin.", 41 PC8 (io) "ACMP1_CH0, TIM2_CC0#2, US0_CS#2", 42 PC9 (io) "ACMP1_CH1, TIM2_CC1#2, US0_CLK#2", 43 PC10 (io) "ACMP1_CH2, TIM2_CC2#2, US0_RX#2", 44 PC11 (io) "ACMP1_CH3, US0_TX#2", 45 PC12 (io) "ACMP1_CH4, CMU_CLK0#1", 46 PC13 (io) "ACMP1_CH5, TIM0_CDTI0#1/3, TIM1_CC0#0, PCNT0_S0IN#0", 47 PC14 (io) "ACMP1_CH6, TIM0_CDTI1#1/3, TIM1_CC1#0, PCNT0_S1IN#0", 48 PC15 (io) "ACMP1_CH7, TIM0_CDTI2#1/3, TIM1_CC2#0, DBG_SWO#1", 49 PF0 (io) "LETIM0_OUT0#2, DBG_SWCLK#0/1", 50 PF1 (io) "LETIM0_OUT1#2, DBG_SWDIO#0/1", 51 PF2 (io) "ACMP1_O#0, DBG_SWO#0", 52 PF3 (io) "TIM0_CDTI0#2", 53 PF4 (io) "TIM0_CDTI1#2", 54 PF5 (io) "TIM0_CDTI2#2", 55 IOVDD_5 (power) "Digital IO power supply 5.", 56 PE8 (io) "PCNT2_S0IN#1", 57 PE9 (io) "PCNT2_S1IN#1", 58 PE10 (io) "TIM1_CC0#1, US0_TX#0", 59 PE11 (io) "TIM1_CC1#1, US0_RX#0", 60 PE12 (io) "TIM1_CC2#1, US0_CLK#0", 61 PE13 (io) "US0_CS#0, ACMP0_O#0", 62 PE14 (io) "LEU0_TX#2", 63 PE15 (io) "LEU0_RX#2", 64 PA15 (io)

## EFM32G230F128-QFN64
designator U?
EFM32 Gecko, M3 ARM Cortex CPU, 128 KB Flash, 16 KB RAM, 1.85 - 3.8 V Supply, 32 MHz Max Speed, -40 to 85 degC, 64-Pin QFN, RoHS Compliant; Generic Part Number: EFM32G230; PartNumber: EFM32G230F128-QFN64; ADC: Y; Flash (KB): 128; GPIO: 56; I2C: 1; Max Speed (MHz): 32; RAM (KB): 16; DatasheetVersion: Rev 1.50; PackageVersion: Rev. 98SPP64048A_XO1_08MAR2011; PackageReference: QFN64; PackageDescription: 64-Pin Quad Flat No-Lead, Body 9 x 9 mm, Pitch 0.5 mm; Supplier 1: Digi-Key; Supplier Part Number 1: 914-1012-2-ND; Supplier 2: Digi-Key; Supplier Part Number 2: 914-1012-1-ND; Supplier 3: Digi-Key; Supplier Part Number 3: 914-1012-6-ND; Supplier 4: Mouser; Supplier Part Number 4: 904-EFM32G230F128; AES: Y; ARM Cortex CPU: M3; Subcategory: EFM32 Gecko; Supply Voltage (V): 1.85 - 3.8; Mounting Technology: Surface Mount; ComponentLink1Description: Manufacturer URL; ComponentLink1URL: http://www.energymicro.com/; ComponentLink2Description: Datasheet; ComponentLink2URL: http://cdn.energymicro.com/dl/devices/pdf/d0005_efm32g230_datasheet.pdf; ComponentLink3Description: Package Specification; ComponentLink3URL: http://cdn.energymicro.com/dl/devices/pdf/d0005_efm32g230_datasheet.pdf
footprint ENMR-QFN64_N (QFN, 64-Leads, Body 9x9mm, Pitch 0.5mm, IPC Medium Density)
footprint ENMR-QFN64_L (QFN, 64-Leads, Body 9x9mm, Pitch 0.5mm, IPC High Density)
footprint ENMR-QFN64_M (QFN, 64-Leads, Body 9x9mm, Pitch 0.5mm, IPC Low Density)
pins: 0 VSS (power) "Ground", 1 PA0 (io) "TIM0_CC0#0/1, I2C0_SDA#0", 2 PA1 (io) "TIM0_CC1#0/1, I2C0_SCL#0, CMU_CLK1#0", 3 PA2 (io) "TIM0_CC2#0/1, CMU_CLK0#0", 4 PA3 (io) "TIM0_CDTI0#0", 5 PA4 (io) "TIM0_CDTI1#0", 6 PA5 (io) "TIM0_CDTI2#0, LEU1_TX#1", 7 PA6 (io) "LEU1_RX#1", 8 IOVDD_0 (power) "Digital IO power supply 0.", 9 PC0 (io) "ACMP0_CH0, PCNT0_S0IN#2, US1_TX#0", 10 PC1 (io) "ACMP0_CH1, PCNT0_S1IN#2, US1_RX#0", 11 PC2 (io) "ACMP0_CH2, US2_TX#0", 12 PC3 (io) "ACMP0_CH3, US2_RX#0", 13 PC4 (io) "ACMP0_CH4, LETIM0_OUT0#3, PCNT1_S0IN#0, US2_CLK#0", 14 PC5 (io) "ACMP0_CH5, LETIM0_OUT1#3, PCNT1_S1IN#0, US2_CS#0", 15 PB7 (io) "LFXTAL_P, US1_CLK#0", 16 PB8 (io) "LFXTAL_N, US1_CS#0", 17 PA8 (io) "TIM2_CC0#0", 18 PA9 (io) "TIM2_CC1#0", 19 PA10 (io) "TIM2_CC2#0", 20 RESETn (in) "Reset input. Active low, with internal pull-up.", 21 PB11 (io) "DAC0_OUT0, LETIM0_OUT0#1", 22 PB12 (io) "DAC0_OUT1, LETIM0_OUT1#1", 23 AVDD_1 (power) "Analog power supply 1 .", 24 PB13 (io) "HFXTAL_P, LEU0_TX#1", 25 PB14 (io) "HFXTAL_N, LEU0_RX#1", 26 IOVDD_3 (power) "Digital IO power supply 3.", 27 AVDD_0 (power) "Analog power supply 0.", 28 PD0 (io) "ADC0_CH0, PCNT2_S0IN#0, US1_TX#1", 29 PD1 (io) "ADC0_CH1, TIM0_CC0#3, PCNT2_S1IN#0, US1_RX#1", 30 PD2 (io) "ADC0_CH2, TIM0_CC1#3, US1_CLK#1", 31 PD3 (io) "ADC0_CH3, TIM0_CC2#3, US1_CS#1", 32 PD4 (io) "ADC0_CH4, LEU0_TX#0", 33 PD5 (io) "ADC0_CH5, LEU0_RX#0", 34 PD6 (io) "ADC0_CH6, LETIM0_OUT0#0, I2C0_SDA#1", 35 PD7 (io) "ADC0_CH7, LETIM0_OUT1#0, I2C0_SCL#1", 36 PD8 (io) "CMU_CLK1#1", 37 PC6 (io) "ACMP0_CH6, LEU1_TX#0, I2C0_SDA#2", 38 PC7 (io) "ACMP0_CH7, LEU1_RX#0, I2C0_SCL#2", 39 VDD_DREG (power) "Power supply for on-chip voltage regulator.", 40 DECOUPLE "Decouple output for on-chip voltage regulator. An external capacitance of size CDECOUPLE is required at this pin.", 41 PC8 (io) "ACMP1_CH0, TIM2_CC0#2, US0_CS#2", 42 PC9 (io) "ACMP1_CH1, TIM2_CC1#2, US0_CLK#2", 43 PC10 (io) "ACMP1_CH2, TIM2_CC2#2, US0_RX#2", 44 PC11 (io) "ACMP1_CH3, US0_TX#2", 45 PC12 (io) "ACMP1_CH4, CMU_CLK0#1", 46 PC13 (io) "ACMP1_CH5, TIM0_CDTI0#1/3, TIM1_CC0#0, PCNT0_S0IN#0", 47 PC14 (io) "ACMP1_CH6, TIM0_CDTI1#1/3, TIM1_CC1#0, PCNT0_S1IN#0", 48 PC15 (io) "ACMP1_CH7, TIM0_CDTI2#1/3, TIM1_CC2#0, DBG_SWO#1", 49 PF0 (io) "LETIM0_OUT0#2, DBG_SWCLK#0/1", 50 PF1 (io) "LETIM0_OUT1#2, DBG_SWDIO#0/1", 51 PF2 (io) "ACMP1_O#0, DBG_SWO#0", 52 PF3 (io) "TIM0_CDTI0#2", 53 PF4 (io) "TIM0_CDTI1#2", 54 PF5 (io) "TIM0_CDTI2#2", 55 IOVDD_5 (power) "Digital IO power supply 5.", 56 PE8 (io) "PCNT2_S0IN#1", 57 PE9 (io) "PCNT2_S1IN#1", 58 PE10 (io) "TIM1_CC0#1, US0_TX#0", 59 PE11 (io) "TIM1_CC1#1, US0_RX#0", 60 PE12 (io) "TIM1_CC2#1, US0_CLK#0", 61 PE13 (io) "US0_CS#0, ACMP0_O#0", 62 PE14 (io) "LEU0_TX#2", 63 PE15 (io) "LEU0_RX#2", 64 PA15 (io)

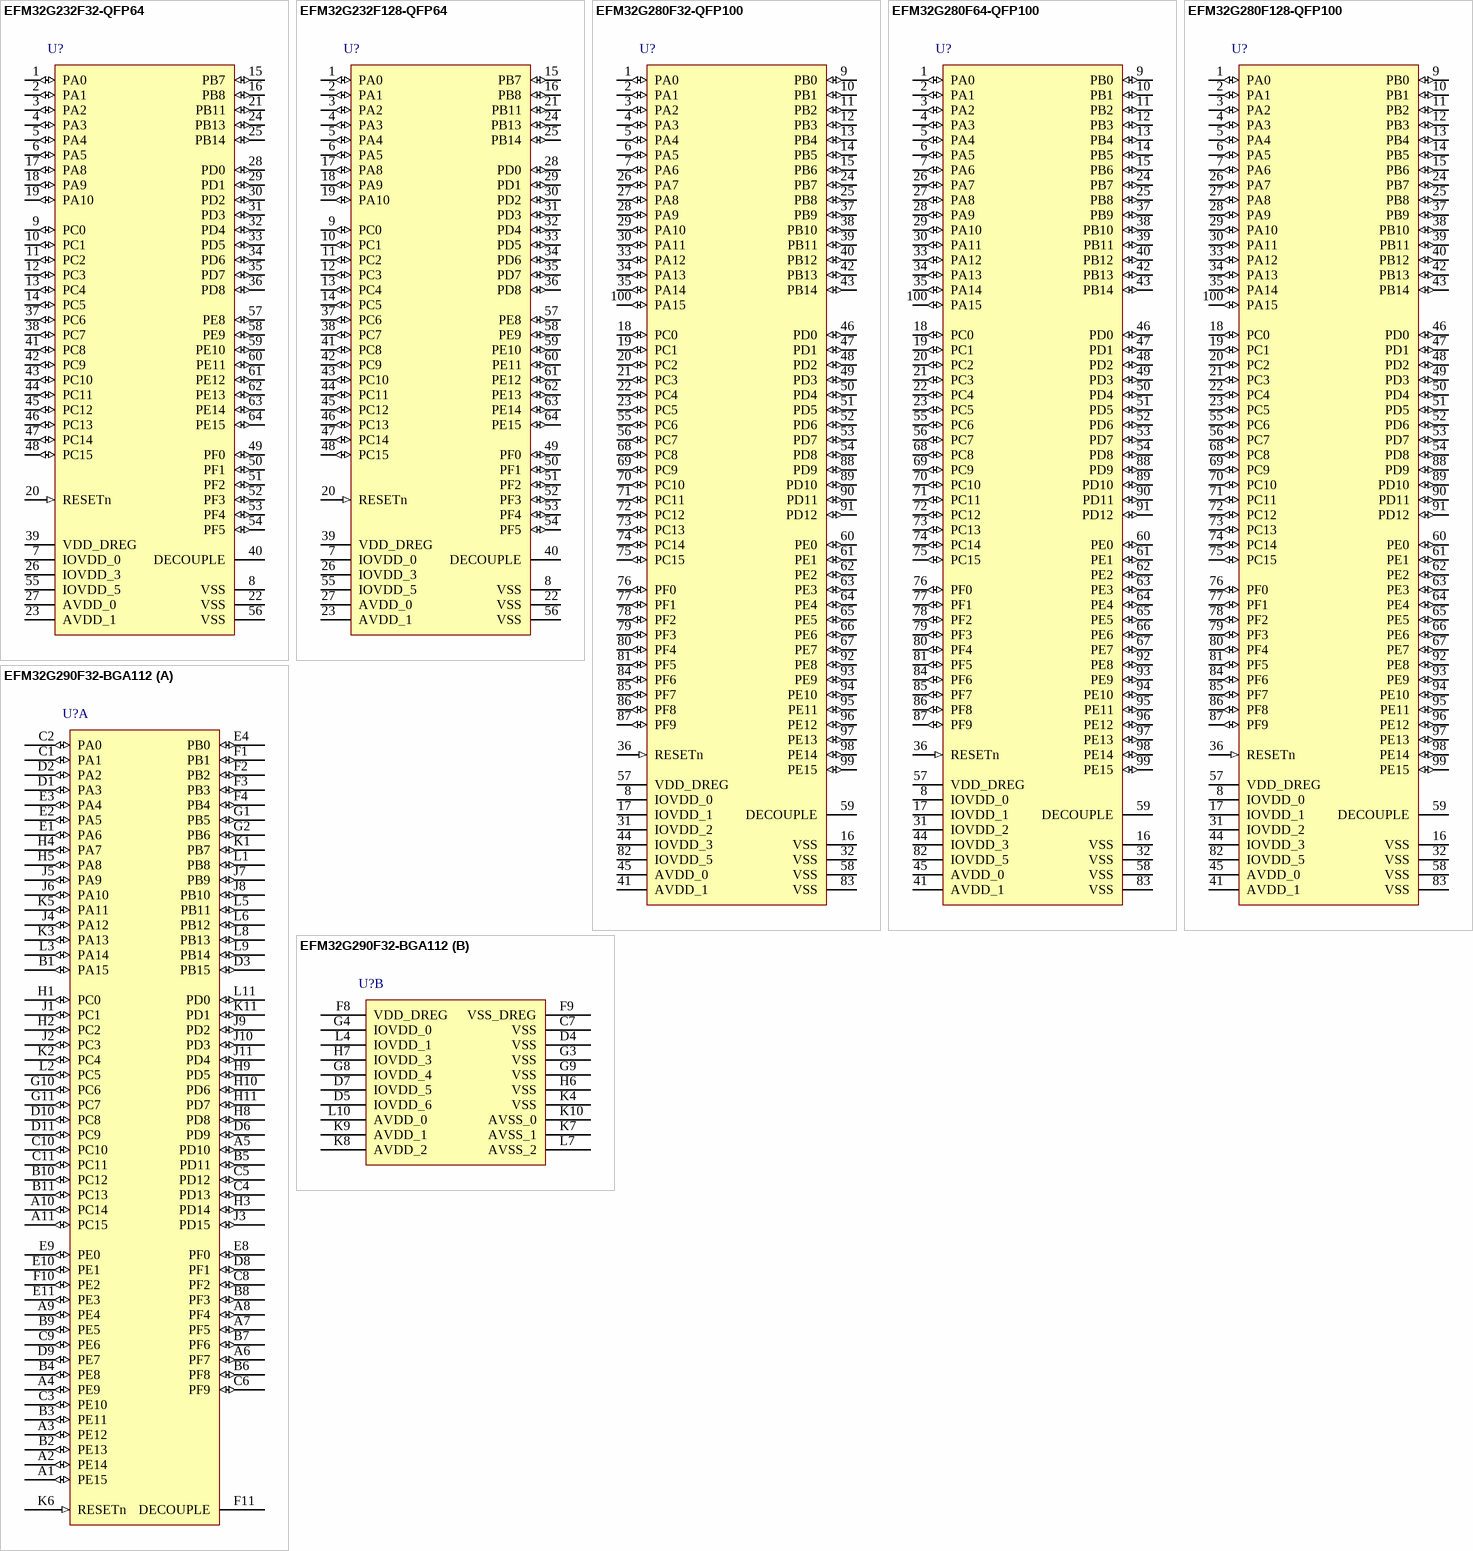
[diagram p1: symbols EFM32G232F32-QFP64 to EFM32G290F32-BGA112]

## EFM32G232F32-QFP64
designator U?
EFM32 Gecko, M3 ARM Cortex CPU, 32 KB Flash, 8 KB RAM, 1.85 - 3.8 V Supply, 32 MHz Max Speed, -40 to 85 degC, 64-Pin TQFP, RoHS Compliant; Generic Part Number: EFM32G232; PartNumber: EFM32G232F32-QFP64; ADC: Y; Flash (KB): 32; GPIO: 53; RAM (KB): 8; DatasheetVersion: Rev 1.50; PackageVersion: Rev. 98SPP64023A_XO1_17MAR2011; PackageReference: TQFP64; PackageDescription: 64-Pin Quad Flat Package, Body 10 x 10 mm, Pitch 0.5 mm; Supplier 1: Digi-Key; Supplier Part Number 1: EFM32G232F32-ND; Supplier 2: Mouser; Supplier Part Number 2: 904-EFM32G232F32; AES: Y; ARM Cortex CPU: M3; Max Speed (MHz): 32; Subcategory: EFM32 Gecko; Supply Voltage (V): 1.85 - 3.8; Mounting Technology: Surface Mount; ComponentLink1Description: Manufacturer URL; ComponentLink1URL: http://www.energymicro.com/; ComponentLink2Description: Datasheet; ComponentLink2URL: http://cdn.energymicro.com/dl/devices/pdf/d0069_efm32g232_datasheet.pdf; ComponentLink3Description: Package Specification; ComponentLink3URL: http://cdn.energymicro.com/dl/devices/pdf/d0070_efm32g842_datasheet.pdf
footprint ENMR-TQFP64_N (QFP, 64-Leads, Body 10x10mm, Pitch 0.5mm, IPC Medium Density)
footprint ENMR-TQFP64_L (QFP, 64-Leads, Body 10x10mm, Pitch 0.5mm, IPC High Density)
footprint ENMR-TQFP64_M (QFP, 64-Leads, Body 10x10mm, Pitch 0.5mm, IPC Low Density)
pins: 1 PA0 (io) "TIM0_CC0#0/1, I2C0_SDA#0", 2 PA1 (io) "TIM0_CC1#0/1, I2C0_SCL#0, CMU_CLK1#0", 3 PA2 (io) "TIM0_CC2#0/1, CMU_CLK0#0", 4 PA3 (io) "TIM0_CDTI0#0", 5 PA4 (io) "TIM0_CDTI1#0", 6 PA5 (io) "TIM0_CDTI2#0, LEU1_TX#1", 7 IOVDD_0 (power) "Digital IO power supply 0.", 8 VSS (power) "Ground", 9 PC0 (io) "ACMP0_CH0, PCNT0_S0IN#2, US1_TX#0", 10 PC1 (io) "ACMP0_CH1, PCNT0_S1IN#2, US1_RX#0", 11 PC2 (io) "ACMP0_CH2, US2_TX#0", 12 PC3 (io) "ACMP0_CH3, US2_RX#0", 13 PC4 (io) "ACMP0_CH4, LETIM0_OUT0#3, PCNT1_S0IN#0, US2_CLK#0", 14 PC5 (io) "ACMP0_CH5, LETIM0_OUT1#3, PCNT1_S1IN#0, US2_CS#0", 15 PB7 (io) "LFXTAL_P, US1_CLK#0", 16 PB8 (io) "LFXTAL_N, US1_CS#0", 17 PA8 (io) "TIM2_CC0#0", 18 PA9 (io) "TIM2_CC1#0", 19 PA10 (io) "TIM2_CC2#0", 20 RESETn (in) "Reset input.Active low, with internal pull-up.", 21 PB11 (io) "DAC0_OUT0, LETIM0_OUT0#1", 22 VSS (power) "Ground", 23 AVDD_1 (power) "Analog power supply 1.", 24 PB13 (io) "HFXTAL_P, LEU0_TX#1", 25 PB14 (io) "HFXTAL_N, LEU0_RX#1", 26 IOVDD_3 (power) "Digital IO power supply 3.", 27 AVDD_0 (power) "Analog power supply 0.", 28 PD0 (io) "ADC0_CH0, PCNT2_S0IN#0, US1_TX#1", 29 PD1 (io) "ADC0_CH1, TIM0_CC0#3, PCNT2_S1IN#0, US1_RX#1", 30 PD2 (io) "ADC0_CH2, TIM0_CC1#3, US1_CLK#1", 31 PD3 (io) "ADC0_CH3, TIM0_CC2#3, US1_CS#1", 32 PD4 (io) "ADC0_CH4, LEU0_TX#0", 33 PD5 (io) "ADC0_CH5, LEU0_RX#0", 34 PD6 (io) "ADC0_CH6, LETIM0_OUT0#0, I2C0_SDA#1", 35 PD7 (io) "ADC0_CH7, LETIM0_OUT1#0, I2C0_SCL#1", 36 PD8 (io) "CMU_CLK1#1", 37 PC6 (io) "ACMP0_CH6, LEU1_TX#0, I2C0_SDA#2", 38 PC7 (io) "ACMP0_CH7, LEU1_RX#0, I2C0_SCL#2", 39 VDD_DREG (power) "Power supply for on-chip voltage regulator.", 40 DECOUPLE "Decouple output for on-chip voltage regulator. An external capacitance of size CDECOUPLE is required at this pin.", 41 PC8 (io) "ACMP1_CH0, TIM2_CC0#2, US0_CS#2", 42 PC9 (io) "ACMP1_CH1, TIM2_CC1#2, US0_CLK#2", 43 PC10 (io) "ACMP1_CH2, TIM2_CC2#2, US0_RX#2", 44 PC11 (io) "ACMP1_CH3, US0_TX#2", 45 PC12 (io) "ACMP1_CH4, CMU_CLK0#1", 46 PC13 (io) "ACMP1_CH5, TIM0_CDTI0#1/3, TIM1_CC0#0, PCNT0_S0IN#0", 47 PC14 (io) "ACMP1_CH6, TIM0_CDTI1#1/3, TIM1_CC1#0, PCNT0_S1IN#0", 48 PC15 (io) "ACMP1_CH7, TIM0_CDTI2#1/3, TIM1_CC2#0, DBG_SWO#1", 49 PF0 (io) "LETIM0_OUT0#2, DBG_SWCLK#0/1", 50 PF1 (io) "LETIM0_OUT1#2, DBG_SWDIO#0/1", 51 PF2 (io) "ACMP1_O#0, DBG_SWO#0", 52 PF3 (io) "TIM0_CDTI0#2", 53 PF4 (io) "TIM0_CDTI1#2", 54 PF5 (io) "TIM0_CDTI2#2", 55 IOVDD_5 (power) "Digital IO power supply 5.", 56 VSS (power) "Ground", 57 PE8 (io) "PCNT2_S0IN#1", 58 PE9 (io) "PCNT2_S1IN#1", 59 PE10 (io) "TIM1_CC0#1, US0_TX#0", 60 PE11 (io) "TIM1_CC1#1, US0_RX#0", 61 PE12 (io) "TIM1_CC2#1, US0_CLK#0", 62 PE13 (io) "US0_CS#0, ACMP0_O#0", 63 PE14 (io) "LEU0_TX#2", 64 PE15 (io) "LEU0_RX#2"

## EFM32G232F128-QFP64
designator U?
EFM32 Gecko, M3 ARM Cortex CPU, 128 KB Flash, 16 KB RAM, 1.85 - 3.8 V Supply, 32 MHz Max Speed, -40 to 85 degC, 64-Pin TQFP, RoHS Compliant; Generic Part Number: EFM32G232; PartNumber: EFM32G232F128-QFP64; ADC: Y; Flash (KB): 128; GPIO: 53; Max Speed (MHz): 32; RAM (KB): 16; DatasheetVersion: Rev 1.50; PackageVersion: Rev. 98SPP64023A_XO1_17MAR2011; PackageReference: TQFP64; PackageDescription: 64-Pin Quad Flat Package, Body 10 x 10 mm, Pitch 0.5 mm; Supplier 1: Digi-Key; Supplier Part Number 1: 914-1026-2-ND; Supplier 2: Digi-Key; Supplier Part Number 2: 914-1026-1-ND; Supplier 3: Digi-Key; Supplier Part Number 3: 914-1026-6-ND; Supplier 4: Mouser; Supplier Part Number 4: 904-EFM32G232F128; AES: Y; ARM Cortex CPU: M3; Subcategory: EFM32 Gecko; Supply Voltage (V): 1.85 - 3.8; Mounting Technology: Surface Mount; ComponentLink1Description: Manufacturer URL; ComponentLink1URL: http://www.energymicro.com/; ComponentLink2Description: Datasheet; ComponentLink2URL: http://cdn.energymicro.com/dl/devices/pdf/d0069_efm32g232_datasheet.pdf; ComponentLink3Description: Package Specification; ComponentLink3URL: http://cdn.energymicro.com/dl/devices/pdf/d0070_efm32g842_datasheet.pdf
footprint ENMR-TQFP64_N (QFP, 64-Leads, Body 10x10mm, Pitch 0.5mm, IPC Medium Density)
footprint ENMR-TQFP64_L (QFP, 64-Leads, Body 10x10mm, Pitch 0.5mm, IPC High Density)
footprint ENMR-TQFP64_M (QFP, 64-Leads, Body 10x10mm, Pitch 0.5mm, IPC Low Density)
pins: 1 PA0 (io) "TIM0_CC0#0/1, I2C0_SDA#0", 2 PA1 (io) "TIM0_CC1#0/1, I2C0_SCL#0, CMU_CLK1#0", 3 PA2 (io) "TIM0_CC2#0/1, CMU_CLK0#0", 4 PA3 (io) "TIM0_CDTI0#0", 5 PA4 (io) "TIM0_CDTI1#0", 6 PA5 (io) "TIM0_CDTI2#0, LEU1_TX#1", 7 IOVDD_0 (power) "Digital IO power supply 0.", 8 VSS (power) "Ground", 9 PC0 (io) "ACMP0_CH0, PCNT0_S0IN#2, US1_TX#0", 10 PC1 (io) "ACMP0_CH1, PCNT0_S1IN#2, US1_RX#0", 11 PC2 (io) "ACMP0_CH2, US2_TX#0", 12 PC3 (io) "ACMP0_CH3, US2_RX#0", 13 PC4 (io) "ACMP0_CH4, LETIM0_OUT0#3, PCNT1_S0IN#0, US2_CLK#0", 14 PC5 (io) "ACMP0_CH5, LETIM0_OUT1#3, PCNT1_S1IN#0, US2_CS#0", 15 PB7 (io) "LFXTAL_P, US1_CLK#0", 16 PB8 (io) "LFXTAL_N, US1_CS#0", 17 PA8 (io) "TIM2_CC0#0", 18 PA9 (io) "TIM2_CC1#0", 19 PA10 (io) "TIM2_CC2#0", 20 RESETn (in) "Reset input.Active low, with internal pull-up.", 21 PB11 (io) "DAC0_OUT0, LETIM0_OUT0#1", 22 VSS (power) "Ground", 23 AVDD_1 (power) "Analog power supply 1.", 24 PB13 (io) "HFXTAL_P, LEU0_TX#1", 25 PB14 (io) "HFXTAL_N, LEU0_RX#1", 26 IOVDD_3 (power) "Digital IO power supply 3.", 27 AVDD_0 (power) "Analog power supply 0.", 28 PD0 (io) "ADC0_CH0, PCNT2_S0IN#0, US1_TX#1", 29 PD1 (io) "ADC0_CH1, TIM0_CC0#3, PCNT2_S1IN#0, US1_RX#1", 30 PD2 (io) "ADC0_CH2, TIM0_CC1#3, US1_CLK#1", 31 PD3 (io) "ADC0_CH3, TIM0_CC2#3, US1_CS#1", 32 PD4 (io) "ADC0_CH4, LEU0_TX#0", 33 PD5 (io) "ADC0_CH5, LEU0_RX#0", 34 PD6 (io) "ADC0_CH6, LETIM0_OUT0#0, I2C0_SDA#1", 35 PD7 (io) "ADC0_CH7, LETIM0_OUT1#0, I2C0_SCL#1", 36 PD8 (io) "CMU_CLK1#1", 37 PC6 (io) "ACMP0_CH6, LEU1_TX#0, I2C0_SDA#2", 38 PC7 (io) "ACMP0_CH7, LEU1_RX#0, I2C0_SCL#2", 39 VDD_DREG (power) "Power supply for on-chip voltage regulator.", 40 DECOUPLE "Decouple output for on-chip voltage regulator. An external capacitance of size CDECOUPLE is required at this pin.", 41 PC8 (io) "ACMP1_CH0, TIM2_CC0#2, US0_CS#2", 42 PC9 (io) "ACMP1_CH1, TIM2_CC1#2, US0_CLK#2", 43 PC10 (io) "ACMP1_CH2, TIM2_CC2#2, US0_RX#2", 44 PC11 (io) "ACMP1_CH3, US0_TX#2", 45 PC12 (io) "ACMP1_CH4, CMU_CLK0#1", 46 PC13 (io) "ACMP1_CH5, TIM0_CDTI0#1/3, TIM1_CC0#0, PCNT0_S0IN#0", 47 PC14 (io) "ACMP1_CH6, TIM0_CDTI1#1/3, TIM1_CC1#0, PCNT0_S1IN#0", 48 PC15 (io) "ACMP1_CH7, TIM0_CDTI2#1/3, TIM1_CC2#0, DBG_SWO#1", 49 PF0 (io) "LETIM0_OUT0#2, DBG_SWCLK#0/1", 50 PF1 (io) "LETIM0_OUT1#2, DBG_SWDIO#0/1", 51 PF2 (io) "ACMP1_O#0, DBG_SWO#0", 52 PF3 (io) "TIM0_CDTI0#2", 53 PF4 (io) "TIM0_CDTI1#2", 54 PF5 (io) "TIM0_CDTI2#2", 55 IOVDD_5 (power) "Digital IO power supply 5.", 56 VSS (power) "Ground", 57 PE8 (io) "PCNT2_S0IN#1", 58 PE9 (io) "PCNT2_S1IN#1", 59 PE10 (io) "TIM1_CC0#1, US0_TX#0", 60 PE11 (io) "TIM1_CC1#1, US0_RX#0", 61 PE12 (io) "TIM1_CC2#1, US0_CLK#0", 62 PE13 (io) "US0_CS#0, ACMP0_O#0", 63 PE14 (io) "LEU0_TX#2", 64 PE15 (io) "LEU0_RX#2"

## EFM32G280F32-QFP100
designator U?
EFM32 Gecko, M3 ARM Cortex CPU, 32 KB Flash, 8 KB RAM, 1.85 - 3.8 V Supply, 32 MHz Max Speed, -40 to 85 degC, 100-Pin LQFP, RoHS Compliant; Generic Part Number: EFM32G280; PartNumber: EFM32G280F32-QFP100; ADC: Y; Flash (KB): 32; GPIO: 86; I2C: 1; RAM (KB): 8; DatasheetVersion: Rev. 98A0100QP043_03MAY2007; PackageVersion: Rev. 98A0100QP043_03MAY2007; PackageReference: LQFP100; PackageDescription: 100-Pin Low rofile Quad Flat Package, Body 14 x 14 mm, Pitch 0.5 mm; Supplier 1: Digi-Key; Supplier Part Number 1: EFM32G280F32-ND; Supplier 2: Mouser; Supplier Part Number 2: 904-EFM32G280F32; AES: Y; ARM Cortex CPU: M3; Max Speed (MHz): 32; Subcategory: EFM32 Gecko; Supply Voltage (V): 1.85 - 3.8; Mounting Technology: Surface Mount; ComponentLink1Description: Manufacturer URL; ComponentLink1URL: http://www.energymicro.com/; ComponentLink2Description: Datasheet; ComponentLink2URL: http://cdn.energymicro.com/dl/devices/pdf/d0006_efm32g280_datasheet.pdf; ComponentLink3Description: Package Specification; ComponentLink3URL: http://cdn.energymicro.com/dl/devices/pdf/d0006_efm32g280_datasheet.pdf
footprint ENMR-LQFP100_N (LQFP, 100-Leads, Body 14x14mm, Pitch 0.5mm, IPC Medium Density)
footprint ENMR-LQFP100_L (LQFP, 100-Leads, Body 14x14mm, Pitch 0.5mm, IPC High Density)
footprint ENMR-LQFP100_M (LQFP, 100-Leads, Body 14x14mm, Pitch 0.5mm, IPC Low Density)
pins: 1 PA0 (io) "EBI_AD09#0, TIM0_CC0#0/1, I2C0_SDA#0", 2 PA1 (io) "EBI_AD10#0, TIM0_CC1#0/1, I2C0_SCL#0, CMU_CLK1#0", 3 PA2 (io) "EBI_AD11#0, TIM0_CC2#0/1, CMU_CLK0#0", 4 PA3 (io) "EBI_AD12#0, TIM0_CDTI0#0, U0_TX#2", 5 PA4 (io) "EBI_AD13#0, TIM0_CDTI1#0, U0_RX#2", 6 PA5 (io) "EBI_AD14#0, TIM0_CDTI2#0, LEU1_TX#1", 7 PA6 (io) "EBI_AD15#0, LEU1_RX#1", 8 IOVDD_0 (power) "Digital IO power supply 0.", 9 PB0 (io) "TIM1_CC0#2", 10 PB1 (io) "TIM1_CC1#2", 11 PB2 (io) "TIM1_CC2#2", 12 PB3 (io) "PCNT1_S0IN#1, US2_TX#1", 13 PB4 (io) "PCNT1_S1IN#1, US2_RX#1", 14 PB5 (io) "US2_CLK#1", 15 PB6 (io) "US2_CS#1", 16 VSS (power) "Ground", 17 IOVDD_1 (power) "Digital IO power supply 1.", 18 PC0 (io) "ACMP0_CH0, PCNT0_S0IN#2, US1_TX#0", 19 PC1 (io) "ACMP0_CH1, PCNT0_S1IN#2, US1_RX#0", 20 PC2 (io) "ACMP0_CH2, US2_TX#0", 21 PC3 (io) "ACMP0_CH3, US2_RX#0", 22 PC4 (io) "ACMP0_CH4, LETIM0_OUT0#3, PCNT1_S0IN#0, US2_CLK#0", 23 PC5 (io) "ACMP0_CH5, LETIM0_OUT1#3, PCNT1_S1IN#0, US2_CS#0", 24 PB7 (io) "LFXTAL_P, US1_CLK#0", 25 PB8 (io) "LFXTAL_N, US1_CS#0", 26 PA7 (io), 27 PA8 (io) "TIM2_CC0#0", 28 PA9 (io) "TIM2_CC1#0", 29 PA10 (io) "TIM2_CC2#0", 30 PA11 (io), 31 IOVDD_2 (power) "Digital IO power supply 2.", 32 VSS (power) "Ground", 33 PA12 (io) "TIM2_CC0#1", 34 PA13 (io) "TIM2_CC1#1", 35 PA14 (io) "TIM2_CC2#1", 36 RESETn (in) "Reset input. Active low, with internal pull-up.", 37 PB9 (io), 38 PB10 (io), 39 PB11 (io) "DAC0_OUT0, LETIM0_OUT0#1", 40 PB12 (io) "DAC0_OUT1, LETIM0_OUT1#1", 41 AVDD_1 (power) "Analog power supply 1 .", 42 PB13 (io) "HFXTAL_P, LEU0_TX#1", 43 PB14 (io) "HFXTAL_N, LEU0_RX#1", 44 IOVDD_3 (power) "Digital IO power supply 3.", 45 AVDD_0 (power) "Analog power supply 0.", 46 PD0 (io) "ADC0_CH0, PCNT2_S0IN#0, US1_TX#1", 47 PD1 (io) "ADC0_CH1, TIM0_CC0#3, PCNT2_S1IN#0, US1_RX#1", 48 PD2 (io) "ADC0_CH2, TIM0_CC1#3, US1_CLK#1", 49 PD3 (io) "ADC0_CH3, TIM0_CC2#3, US1_CS#1", 50 PD4 (io) "ADC0_CH4, LEU0_TX#0", 51 PD5 (io) "ADC0_CH5, LEU0_RX#0", 52 PD6 (io) "ADC0_CH6, LETIM0_OUT0#0, I2C0_SDA#1", 53 PD7 (io) "ADC0_CH7, LETIM0_OUT1#0, I2C0_SCL#1", 54 PD8 (io) "CMU_CLK1#1", 55 PC6 (io) "ACMP0_CH6, LEU1_TX#0, I2C0_SDA#2", 56 PC7 (io) "ACMP0_CH7, LEU1_RX#0, I2C0_SCL#2", 57 VDD_DREG (power) "Power supply for on-chip voltage regulator", 58 VSS (power) "Ground", 59 DECOUPLE "Decouple output for on-chip voltage regulator. An external capacitance of size CDECOUPLE is required at this pin.", 60 PE0 (io) "PCNT0_S0IN#1, U0_TX#1", 61 PE1 (io) "PCNT0_S1IN#1, U0_RX#1", 62 PE2 (io) "ACMP0_O#1", 63 PE3 (io) "ACMP1_O#1", 64 PE4 (io) "US0_CS#1", 65 PE5 (io) "US0_CLK#1", 66 PE6 (io) "US0_RX#1", 67 PE7 (io) "US0_TX#1", 68 PC8 (io) "ACMP1_CH0, TIM2_CC0#2, US0_CS#2", 69 PC9 (io) "ACMP1_CH1, TIM2_CC1#2, US0_CLK#2", 70 PC10 (io) "ACMP1_CH2, TIM2_CC2#2, US0_RX#2", 71 PC11 (io) "ACMP1_CH3, US0_TX#2", 72 PC12 (io) "ACMP1_CH4, CMU_CLK0#1", 73 PC13 (io) "ACMP1_CH5, TIM0_CDTI0#1/3, TIM1_CC0#0, PCNT0_S0IN#0", 74 PC14 (io) "ACMP1_CH6, TIM0_CDTI1#1/3, TIM1_CC1#0, PCNT0_S1IN#0, U0_TX#3", 75 PC15 (io) "ACMP1_CH7, TIM0_CDTI2#1/3, TIM1_CC2#0, U0_RX#3, DBG_SWO#1", 76 PF0 (io) "LETIM0_OUT0#2, DBG_SWCLK#0/1", 77 PF1 (io) "LETIM0_OUT1#2, DBG_SWDIO#0/1", 78 PF2 (io) "EBI_ARDY#0, ACMP1_O#0, DBG_SWO#0", 79 PF3 (io) "EBI_ALE#0, TIM0_CDTI0#2", 80 PF4 (io) "EBI_WEn#0, TIM0_CDTI1#2", 81 PF5 (io) "EBI_REn#0, TIM0_CDTI2#2", 82 IOVDD_5 (power) "Digital IO power supply 5.", 83 VSS (power) "Ground", 84 PF6 (io) "TIM0_CC0#2, U0_TX#0", 85 PF7 (io) "TIM0_CC1#2, U0_RX#0", 86 PF8 (io) "TIM0_CC2#2", 87 PF9 (io), 88 PD9 (io) "EBI_CS0#0", 89 PD10 (io) "EBI_CS1#0", 90 PD11 (io) "EBI_CS2#0", 91 PD12 (io) "EBI_CS3#0", 92 PE8 (io) "EBI_AD00#0, PCNT2_S0IN#1", 93 PE9 (io) "EBI_AD01#0, PCNT2_S1IN#1", 94 PE10 (io) "EBI_AD02#0, TIM1_CC0#1, US0_TX#0", 95 PE11 (io) "EBI_AD03#0, TIM1_CC1#1, US0_RX#0", 96 PE12 (io) "EBI_AD04#0, TIM1_CC2#1, US0_CLK#0", 97 PE13 (io) "EBI_AD05#0, US0_CS#0, ACMP0_O#0", 98 PE14 (io) "EBI_AD06#0, LEU0_TX#2", 99 PE15 (io) "EBI_AD07#0, LEU0_RX#2", 100 PA15 (io) "EBI_AD08#0"